# Altium schematic symbol library 24M_Osc.SchLib: 1 symbol
Pins are listed as number, name and electrical type; pins without a type are passive.

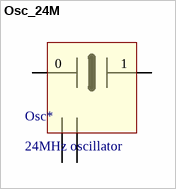
[diagram p0: symbol Osc_24M]

## Osc_24M
designator Osc*, comment 24MHz oscillator
footprint 24MHz_Osc (24MHz oscillator)
pins: 0, 1, 2, 3